# Altium footprint library PVQFN-14.PcbLib: 1 footprints
Each footprint in its own frame and in the unit in brackets; x right, y up, seen from the top. Pads: shape width x height; smd on the part's side, far side on the other; paste and mask are expansions set on the pad; w line width, h text height; cw(c..) or ccw(c..) is an arc to the next point about the centre after c.
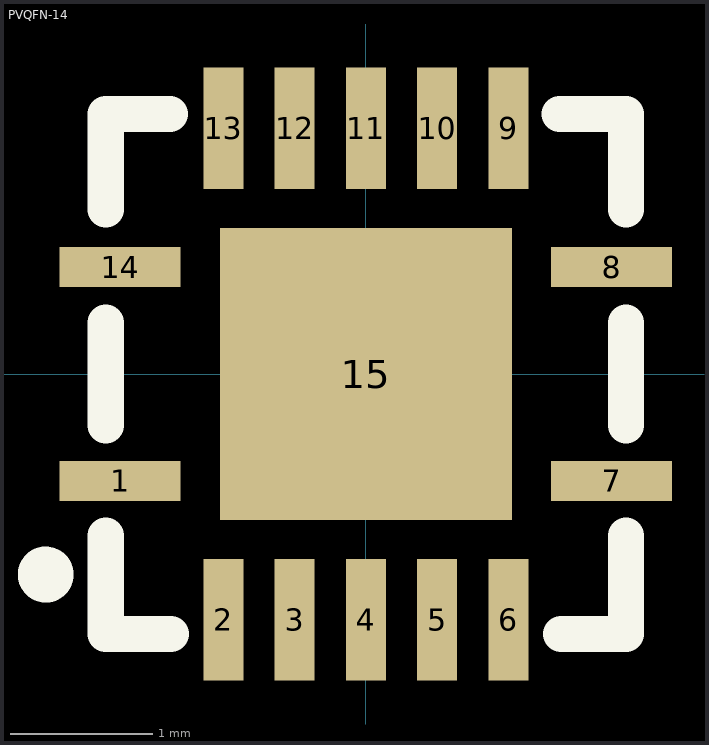
[diagram p0: the footprint, top view; thin cyan lines are the x and y axes]

## PVQFN-14 [mm]
pads (15):
  rect 0.85x0.28 smd mask+0.051: 1(-1.725,-0.75) 7(1.725,-0.75) 8(1.725,0.75) 14(-1.725,0.75)
  rect 0.28x0.85 smd mask+0.051: 2(-1,-1.725) 3(-0.5,-1.725) 4(0,-1.725) 5(0.5,-1.725) 6(1,-1.725) 9(1,1.725) 10(0.5,1.725) 11(0,1.725) 12(-0.5,1.725) 13(-1,1.725)
  rect 2.05x2.05 smd mask+0.076: 15(0,0)
Top Overlay:
  circle w0.254: c-2.247,-1.408 r0.07
  lines w0.254: -1.825,-1.135 -1.825,-1.825 -1.369,-1.825 ; -1.825,-0.36 -1.825,0.36 ; -1.825,1.155 -1.825,1.825 -1.374,1.825 ; 1.361,1.825 1.825,1.825 1.825,1.155 ; 1.372,-1.825 1.825,-1.825 1.825,-1.135 ; 1.825,-0.36 1.825,0.36
3D body: height 1, standoff 0, extent -1.825,-1.825 1.825,1.825